# Altium footprint library Tank.PcbLib: 288 footprints (part 12 of 18)
Each footprint in its own frame and in the unit in brackets; x right, y up, seen from the top. Pads: shape width x height; smd on the part's side, far side on the other; paste and mask are expansions set on the pad; w line width, h text height; cw(c..) or ccw(c..) is an arc to the next point about the centre after c.
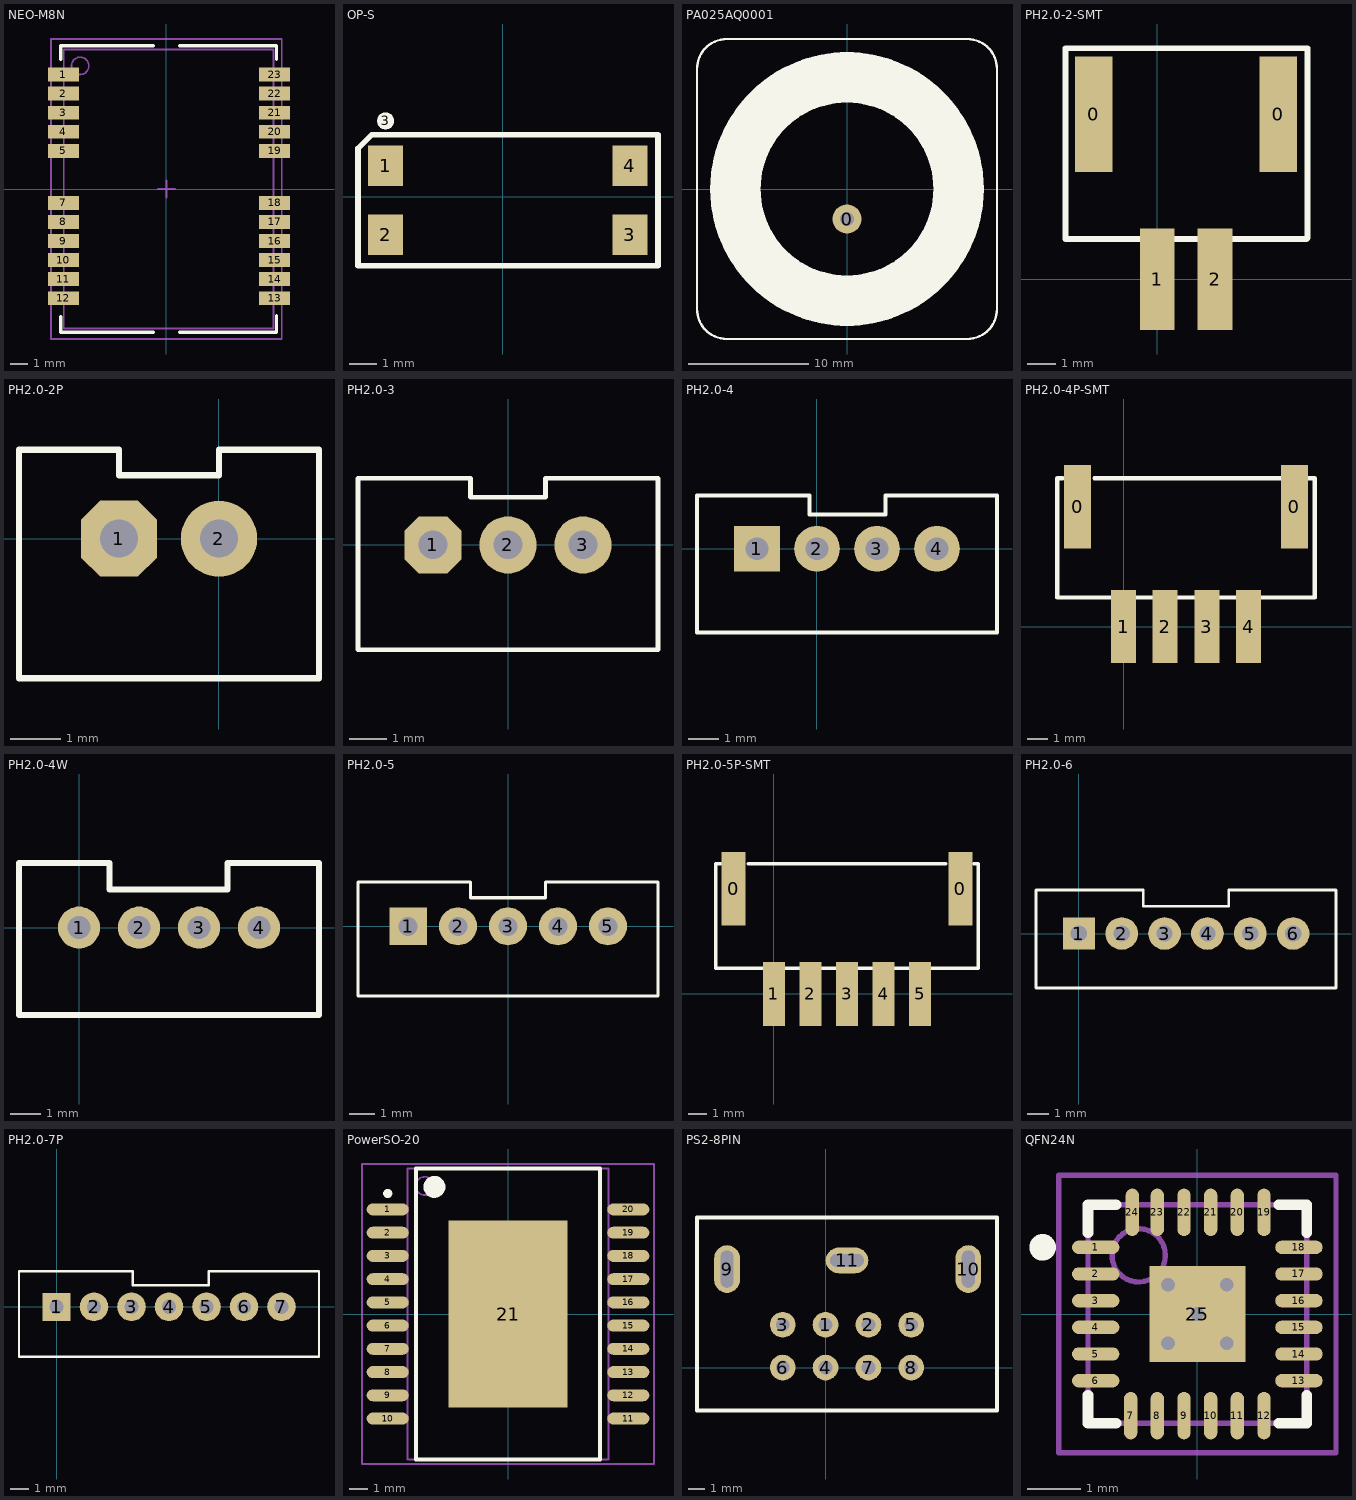
[diagram p11: the footprints below, top view; thin cyan lines are the x and y axes]

## NEO-M8N [mm] "QFN, 26-Leads, Body 16.1x12.1mm (max), Pitch 0.00mm, Pitch1 1.10mm, IPC Medium Density"
height 0.8
pads (23):
  rect 1.8x0.8 smd: 1(-5.94,6.6) 2(-5.94,5.5) 3(-5.94,4.4) 4(-5.94,3.3) 5(-5.94,2.2) 7(-5.94,-0.8) 8(-5.94,-1.9) 9(-5.94,-3) 10(-5.94,-4.1) 11(-5.94,-5.2) 12(-5.94,-6.3) 13(6.24,-6.3) 14(6.24,-5.2) 15(6.24,-4.1) 16(6.24,-3) 17(6.24,-1.9) 18(6.24,-0.8) 19(6.24,2.2) 20(6.24,3.3) 21(6.24,4.4) 22(6.24,5.5) 23(6.24,6.6)
  rect 0x0 smd: 27(0,0)
Top Overlay:
  lines w0.2: -6.096,-7.366 -6.096,-8.255 -0.762,-8.255 ; -6.096,7.493 -6.096,8.255 -0.762,8.255 ; 0.762,-8.255 6.35,-8.255 6.35,-7.3 ; 0.762,8.255 6.35,8.255 6.35,7.493
Mechanical 13:
  circle w0.1: c-4.973,7.1 r0.5
  lines w0.1: -5.923,-8.05 -5.923,8.05 6.177,8.05 6.177,-8.05 -5.923,-8.05
Mechanical 15:
  lines w0.1: -0.5,0 0.5,0 ; 0,-0.5 0,0.5 ; -6.65,-8.65 -6.65,8.65 6.65,8.65 6.65,-8.65 -6.65,-8.65
3D body: height 0.8, standoff 0.02, extent -5.923,-8.05 6.177,8.05

## OP-S [mm]
pads (5):
  rect 1.3x1.5 smd: 1(-4.318,1.143) 2(-4.318,-1.397) 3(4.682,-1.397) 4(4.682,1.143)
  round 0.635 on Top Overlay: 3(-4.318,2.794)
Top Overlay:
  lines w0.203: -5.334,-2.54 -5.334,1.778 -4.826,2.286 5.715,2.286 5.715,-2.54 -5.334,-2.54

## PA025AQ0001 [mm]
pads (1):
  round 2.4 hole 1.2: 0(0,-2.5)
Top Overlay:
  circle w4.2: c0,0 r9.3
  lines w0.2: -12.5,-10 ccw(c-10,-10) -10,-12.5 0,-12.5 10,-12.5 ccw(c10,-10) 12.5,-10 12.5,0 12.5,10 ccw(c10,10) 10,12.5 0,12.5 -10,12.5 ccw(c-10,10) -12.5,10 -12.5,0 -12.5,-10

## PH2.0-2-SMT [mm]
pads (4):
  rect 1.3x4 smd: 0(-2.2,5.715) 0(4.191,5.715)
  rect 1.2x3.5 smd: 1(0,0) 2(2,0)
Top Overlay:
  lines w0.203: -1.27,8.001 3.27,8.001 5.207,8.001 5.207,1.429 5.175,1.397 -3.175,1.397 -3.175,8.001 -1.143,8.001

## PH2.0-2P [mil]
pads (2):
  oct 60x60 hole 30: 1(-78.74,0)
  round 60 hole 30: 2(0,0)
Top Overlay:
  lines w5: -157.48,-110 -157.48,70 -78.74,70 -78.74,50 0,50 0,70 78.74,70 78.74,-110 -157.48,-110

## PH2.0-3 [mil]
pads (3):
  oct 60x60 hole 30: 1(-78.74,0)
  round 60 hole 30: 2(0,0) 3(78.74,0)
Top Overlay:
  lines w5: -157.48,-110 157.48,-110 157.48,70 39.37,70 39.37,50 -39.37,50 -39.37,70 -157.48,70 -157.48,-110

## PH2.0-4 [mil]
pads (4):
  rect 60x60 hole 30: 1(-78.74,0)
  round 60 hole 30: 2(0,0) 3(78.74,0) 4(157.48,0)
Top Overlay:
  lines w5: -157.48,-110 236.22,-110 236.22,70 90,70 90,45 -10,45 -10,70 -157.48,70 -157.48,-110

## PH2.0-4P-SMT [mm]
pads (6):
  rect 1.3x4 smd: 0(-2.2,5.75) 0(8.2,5.75)
  rect 1.2x3.5 smd: 1(0,0) 2(2,0) 3(4,0) 4(6,0)
Top Overlay:
  lines w0.203: -2.921,7.112 -3.175,7.112 -3.175,1.397 9.176,1.397 9.176,7.112 -1.397,7.112

## PH2.0-4W [mm]
pads (4):
  round 1.4 hole 0.762: 1(0,0) 2(2,0) 3(4,0) 4(6,0)
Top Overlay:
  lines w0.2: -2,2.159 1.016,2.159
  lines w0.203: -2,2.159 -2,-2.921 8,-2.921 8,2.159 4.953,2.159 4.953,1.27 1.016,1.27 1.016,2.159

## PH2.0-5 [mil]
pads (5):
  rect 59.06x59.06 hole 30: 1(-157.48,0)
  round 60 hole 30: 2(-78.74,0) 3(0,0) 4(78.74,0) 5(157.48,0)
Top Overlay:
  lines w5: -236.22,-110 236.22,-110 236.22,70 59.06,70 59.06,45 -59.06,45 -59.06,70 -236.22,70 -236.22,-110

## PH2.0-5P-SMT [mm]
pads (7):
  rect 1.3x4 smd: 0(-2.2,5.75) 0(10.2,5.75)
  rect 1.2x3.5 smd: 1(0,0) 2(2,0) 3(4,0) 4(6,0) 5(8,0)
Top Overlay:
  lines w0.203: -2.921,7.112 -3.175,7.112 -3.175,1.397 11.176,1.397 11.176,7.112 10.922,7.112 ; -1.397,7.112 9.398,7.112

## PH2.0-6 [mil]
pads (6):
  rect 59.06x59.06 hole 30: 1(0,0)
  round 60 hole 30: 2(78.74,0) 3(157.48,0) 4(236.22,0) 5(314.96,0) 6(393.7,0)
Top Overlay:
  lines w5: -78.74,-100 472.44,-100 472.44,80 275.59,80 275.59,50 118.11,50 118.11,80 -78.74,80 -78.74,-100

## PH2.0-7P [mil]
pads (7):
  rect 59.06x59.06 hole 30: 1(0,0)
  round 60 hole 30: 2(78.74,0) 3(157.48,0) 4(236.22,0) 5(314.96,0) 6(393.7,0) 7(472.44,0)
Top Overlay:
  lines w5: -78.74,-105 -78.74,75 160,75 160,45 320,45 320,75 551.18,75 551.18,-105 -78.74,-105

## PowerSO-20 [mm] "SOP, 20-Leads, Body 15.9x11.0mm (max), Pitch 1.27mm, IPC Medium Density"
height 2.65
pads (21):
  oval 2.3x0.65 smd: 1(-6.575,5.715) 2(-6.575,4.445) 3(-6.575,3.175) 4(-6.575,1.905) 5(-6.575,0.635) 6(-6.575,-0.635) 7(-6.575,-1.905) 8(-6.575,-3.175) 9(-6.575,-4.445) 10(-6.575,-5.715) 11(6.575,-5.715) 12(6.575,-4.445) 13(6.575,-3.175) 14(6.575,-1.905) 15(6.575,-0.635) 16(6.575,0.635) 17(6.575,1.905) 18(6.575,3.175) 19(6.575,4.445) 20(6.575,5.715)
  rect 6.5x10.2 smd: 21(0,0)
Top Overlay:
  circle w0.6: c-4.025,6.95 r0.3
  circle w0.25: c-6.575,6.59 r0.125
  lines w0.2: -5.025,-7.95 5.025,-7.95 5.025,7.95 -5.025,7.95 -5.025,-7.95
Mechanical 13:
  circle w0.1: c-4.55,7 r0.5
  lines w0.1: -5.5,-7.95 5.5,-7.95 5.5,7.95 -5.5,7.95 -5.5,-7.95
Mechanical 15:
  lines w0.1: -0.5,0 0.5,0 ; 0,-0.5 0,0.5 ; -7.975,-8.2 7.975,-8.2 7.975,8.2 -7.975,8.2 -7.975,-8.2
3D body: height 2.65, standoff 0.1, extent -5.5,-7.95 5.5,7.95

## PS2-8PIN [mil]
height 531.5
pads (11):
  round 60 hole 32.28: 1(0,100) 2(100,100) 3(-100,100) 4(0,0) 5(200,100) 6(-100,0) 7(100,0) 8(200,0)
  oval 60x111.18 hole 30 slot 86.61 at 90 deg: 9(-229.92,229.92) 10(333.07,229.92)
  oval 99.37x60 hole 30 slot 78.74 at 0 deg: 11(50,250)
Top Overlay:
  lines w10: -300,-100 -300,350 400,350 400,-100 -300,-100

## QFN24N [mm] "QFN, 24-Leads, Body 4.1x4.1mm (max), Pitch 0.50mm, IPC Medium Density"
height 0.8
pads (25):
  oval 0.889x0.25 smd: 1(-1.905,1.25) 2(-1.905,0.75) 3(-1.905,0.25) 4(-1.905,-0.25) 5(-1.905,-0.75) 6(-1.905,-1.25) 13(1.905,-1.25) 14(1.905,-0.75) 15(1.905,-0.25) 16(1.905,0.25) 17(1.905,0.75) 18(1.905,1.25)
  oval 0.25x0.889 smd: 7(-1.25,-1.905) 8(-0.75,-1.905) 9(-0.25,-1.905) 10(0.25,-1.905) 11(0.75,-1.905) 12(1.25,-1.905) 19(1.25,1.905) 20(0.75,1.905) 21(0.25,1.905) 22(-0.25,1.905) 23(-0.75,1.905) 24(-1.219,1.905)
  rect 1.8x1.8 smd: 25(0,0)
via 0,0 diameter 0.508 hole 0.254
via 0.55,-0.55 diameter 0.508 hole 0.254
via -0.55,-0.55 diameter 0.508 hole 0.254
via 0.55,0.55 diameter 0.508 hole 0.254
via -0.55,0.55 diameter 0.508 hole 0.254
Top Overlay:
  circle w0.25: c-2.9,1.25 r0.125
  lines w0.2: -2.05,-1.525 -2.05,-2.05 -1.525,-2.05 ; -2.05,1.525 -2.05,2.05 -1.525,2.05 ; 1.525,-2.05 2.05,-2.05 2.05,-1.525 ; 1.525,2.05 2.05,2.05 2.05,1.525
Mechanical 13:
  circle w0.1: c-1.1,1.1 r0.5
  lines w0.1: -2.05,-2.05 2.05,-2.05 2.05,2.05 -2.05,2.05 -2.05,-2.05
Mechanical 15:
  lines w0.1: -0.5,0 0.5,0 ; 0,-0.5 0,0.5 ; -2.6,-2.6 2.6,-2.6 2.6,2.6 -2.6,2.6 -2.6,-2.6
3D body: height 0.8, standoff 0.01, extent -2.05,-2.05 2.05,2.05